# EAGLE library part TSL2561 (library Sensor)
314020025 Check prices <https://snapeda.com/parts/TSL2561T/ams/view-part/?ref=eda>
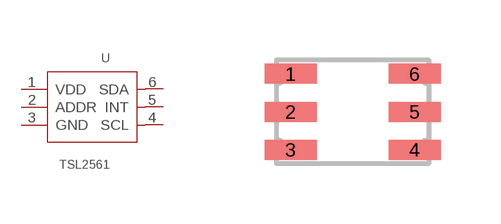
[diagram p2: symbol with the pads of 1.55-3.8X2.6MM; footprint 1.55-3.8X2.6MM]

Designator prefix U

## TSL2561 (AVAILABILITY: Warning; DESCRIPTION: Optical Sensor Ambient 640nm I²C 6-SMD, No Lead; DIGIKEY-PURCHASE-URL: https://snapeda.com/shop?store=DigiKey&id=225280; MF: ams; MOUSER-PURCHASE-URL: https://snapeda.com/shop?store=Mouser&id=225280; MP: TSL2561T; PACKAGE: SMD-6 ams; PRICE: None)  [1.55-3.8X2.6MM]
1  VDD  sup
2  ADDR  in
3  GND  sup
4  SCL  in
5  INT  out
6  SDA

## Footprint 1.55-3.8X2.6MM (pad centres in mm)
smd 1.3 x 0.5: 1 -1.55,0.95; 2 -1.55,0; 3 -1.55,-0.95; 4 1.55,-0.95; 5 1.55,0; 6 1.55,0.95